# Altium schematic symbol library RobonAUT.SchLib: 48 symbols
Pins are listed as number, name and electrical type; pins without a type are passive.

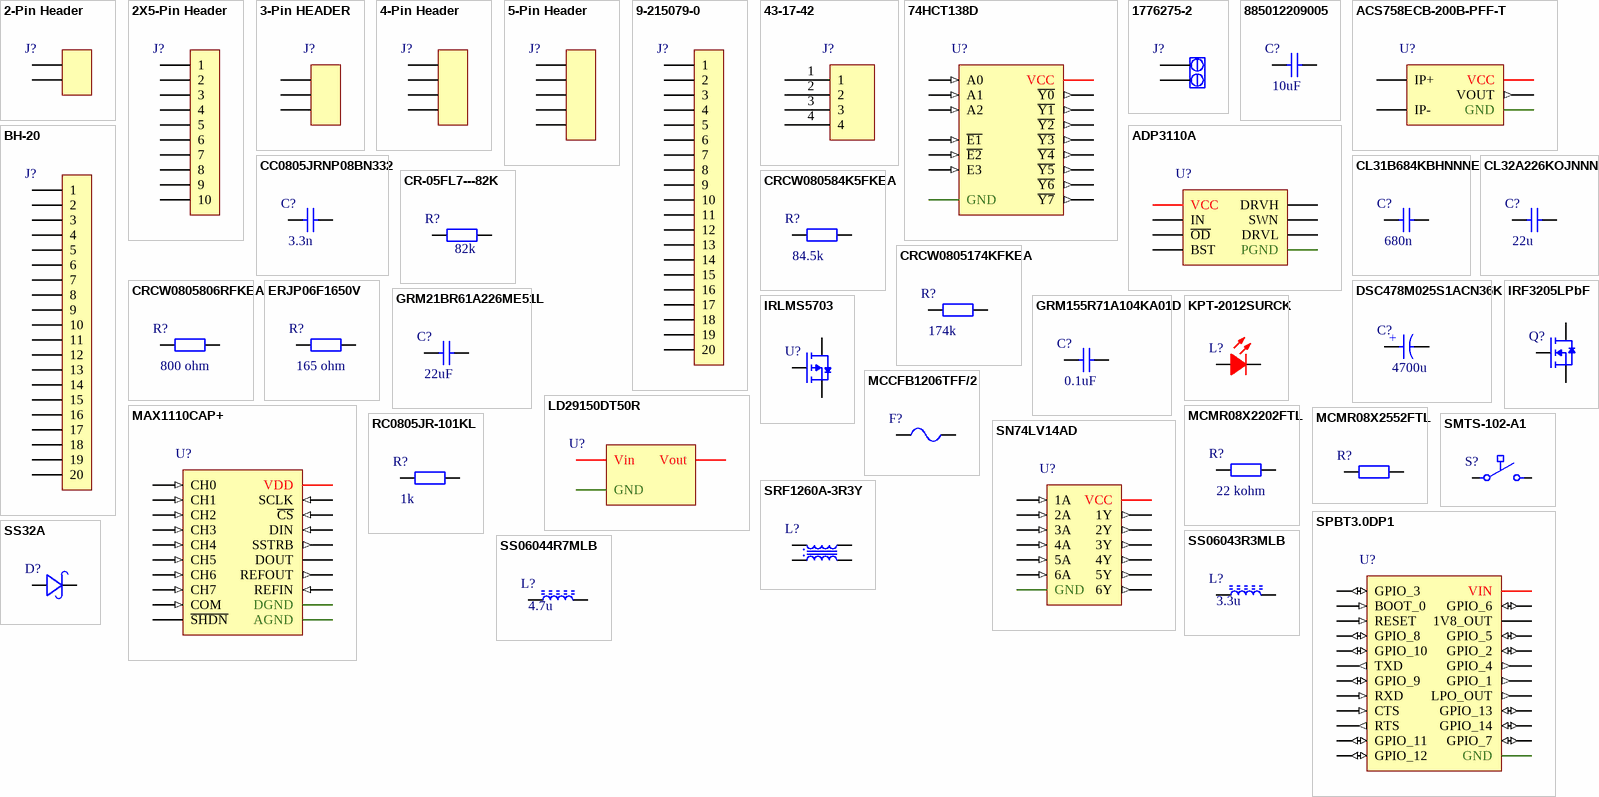
[diagram p0: symbols 2-Pin Header to SS06044R7MLB]

## 2-Pin Header
designator J?  (value not drawn)
TÜSKESOR 2 P SMD SPHSS220-B02-4/3 (T-T) 2mm PIN 0.5x0.5 TÖRDELHETÖ [ 43-10-37 ]
footprint 2-Pin Header
pins: 1, 2

## 2X5-Pin Header
designator J?  (value not drawn)
footprint 2X5-Pin Header
pins: 1, 2, 3, 4, 5, 6, 7, 8, 9, 10

## 3-Pin HEADER
designator J?  (value not drawn)
footprint 3-Pin HEADER
pins: 1, 2, 3

## 4-Pin Header
designator J?  (value not drawn)
footprint 4-Pin Header
pins: 1, 2, 3, 4

## 5-Pin Header
designator J?  (value not drawn)
footprint 5-Pin Header
pins: 1, 2, 3, 4, 5

## 9-215079-0
designator J?  (value not drawn)
Board-To-Board Connector, Top Entry, 1.27 mm, 20 Contacts, Receptacle, Micro-MaTch Series
footprint 9-215079-0
pins: 1, 2, 3, 4, 5, 6, 7, 8, 9, 10, 11, 12, 13, 14, 15, 16, 17, 18, 19, 20

## 43-17-42
designator J?  (value not drawn)
TÁPCSATL. 2.00mm 4P APA 90° NCW200S-04R (G-S) FORR. [ 43-17-42 ]
footprint 43-17-42
pins: 1, 2, 3, 4

## 74HCT138D
designator U?  (value not drawn)
Decoder / Demultiplexer, HCT Family, 1 Gate, 3 Input, 8 Output, 4 mA, 4.5 V to 5.5 V, SOIC-16
footprint 16-Pin SOIC
pins: 1 A0 (in), 2 A1 (in), 3 A2 (in), 4 ~{E1} (in), 5 ~{E2} (in), 6 E3 (in), 7 ~{Y7} (out), 8 GND (power), 9 ~{Y6} (out), 10 ~{Y5} (out), 11 ~{Y4} (out), 12 ~{Y3} (out), 13 ~{Y2} (out), 14 ~{Y1} (out), 15 ~{Y0} (out), 16 VCC (power)

## 1776275-2
designator J?  (value not drawn)
Wire-To-Board Terminal Block, 3.5 mm, 2 Ways, 26 AWG, 18 AWG, 0.9 mm², Screw
footprint Model Name (Footprint not found)
footprint 2-Pin W-t-B (1776275-2)
pins: 1, 2

## 885012209005
designator C?  Capacitance: 10uF  (hidden comment: *)
SMD Multilayer Ceramic Capacitor, 1210 [3225 Metric], 10 µF, 10 V, ± 10%, X7R, WCAP-CSGP Series
footprint 1210
pins: 1, 2

## ACS758ECB-200B-PFF-T
designator U?  (value not drawn)
Thermally Enhanced, Fully Integrated, Hall Effect-Based Linear Current Sensor IC with 100 μΩ Current Conductor
footprint ACS758XCB-PFF-T
pins: 1 VCC (power), 2 GND (power), 3 VOUT (out), 4 IP+, 5 IP-

## ADP3110A
designator U?  (value not drawn)
Dual Bootstrapped, 12 V / MOSFET Driver with Output / Disable
footprint DFN8
pins: 1 BST, 2 IN, 3 ~{OD}, 4 VCC (power), 5 DRVL, 6 PGND (power), 7 SWN, 8 DRVH

## BH-20
designator J?  (value not drawn)
SZAL.KABEL 20 P APA BH-20 (T-T) [ 43-01-71 ]
footprint 2x10-Pin Connector
pins: 1, 2, 3, 4, 5, 6, 7, 8, 9, 10, 11, 12, 13, 14, 15, 16, 17, 18, 19, 20

## CC0805JRNP08BN332
designator C?  Capacitance: 3.3n  (hidden comment: *)
3.3nF 0805 5% 25V NP0 CC0805JRNP08BN332 (YAG) [ 82-04-69 ]
footprint 0805
pins: 1, 2

## CL31B684KBHNNNE
designator C?  Capacitance: 680n  (hidden comment: *)
680nF 1206 10% 50V X7R CL31B684KBHNNNE (SAM) [ 82-09-39 ]
footprint 1206
pins: 1, 2

## CL32A226KOJNNNE
designator C?  Capacitance: 22u  (hidden comment: *)
22uF 1210 10% 16V X5R CL32A226KOJNNNE (SAM) [ 82-08-05 ]
footprint 1210
pins: 1, 2

## CR-05FL7---82K
designator R?  Resistance: 82k  (hidden comment: *)
82K0 0805 1% CR-05FL7---82K 0.125W (VIK) [ 80-11-09 ]
footprint 0805
pins: 1, 2

## CRCW080584K5FKEA
designator R?  Resistance: 84.5k  (hidden comment: *)
SMD Chip Resistor, 84.5 kohm, CRCW Series, 150 V, Thick Film, 0805 [2012 Metric], 125 mW
footprint 0805-W
pins: 1, 2

## CRCW0805174KFKEA
designator R?  Resistance: 174k  (hidden comment: *)
SMD Chip Resistor, 174 kohm, CRCW Series, 150 V, Thick Film, 0805 [2012 Metric], 125 mW
footprint 0805-W
pins: 1, 2

## CRCW0805806RFKEA
designator R?  Resistance: 800 ohm  (hidden comment: *)
RES, THICK FILM, 806R, 1%, 0.125W, 0805
footprint 0805-W
pins: 1, 2

## DSC478M025S1ACN36K
designator C?  Capacitance: 4700u  (hidden comment: *)
4700uF 25V 18x36 RM 7.5 20% 105° 3000h DSC478M025S1ACN36K (TEA) LOW ESR & IMP. HIGH FREQUENCY (KSC) [ 12-19-08 ]
footprint 18x36 EL_CAP
pins: 1, 2
text: +

## ERJP06F1650V
designator R?  Resistance: 165 ohm  (hidden comment: *)
SMD Chip Resistor, 165 ohm, ERJP06 Series, 400 V, Thick Film, 0805 [2012 Metric], 500 mW
footprint 0805-W
pins: 1, 2

## GRM21BR61A226ME51L
designator C?  Capacitance: 22uF  (hidden comment: *)
SMD Multilayer Ceramic Capacitor, 0805 [2012 Metric], 22 µF, 10 V, ± 20%, X5R, GRM Series
footprint 0805
pins: 1, 2

## GRM155R71A104KA01D
designator C?  Capacitance: 0.1uF  (hidden comment: *)
SMD Multilayer Ceramic Capacitor, 0402 [1005 Metric], 0.1 µF, 10 V, ± 10%, X7R, GRM Series
footprint 0402
pins: 1, 2

## IRF3205LPbF
designator Q?  (value not drawn)
HEXFET Power N channel MOSFET
footprint D2PAK
pins: D, G, S

## IRLMS5703
designator U?  (value not drawn)
IRLMS5703TR (IR) P-POWERFET 30V 2.3A Rds<0.2R MICRO-6 [ 86-03-34 ]
footprint Micro6
pins: D, G, S

## KPT-2012SURCK
designator L?  (value not drawn)
LED, Low Power, Red, SMD, 2 mA, 1.95 V, 630 nm
footprint 0808-LED
pins: A, K

## LD29150DT50R
designator U?  (value not drawn)
1.5 A, very low drop voltage regulators
footprint 3-Pin DPAK (TO-252)
pins: 1 Vin (power), 2 GND (power), 3 Vout (power)

## MAX1110CAP+
designator U?  (value not drawn)
Analogue to Digital Converter, Low Power, 8 bit, 50 kSPS, Single, 2.7 V, 5.5 V, SSOP
footprint 20-Pin SSOP
pins: 1 CH0 (in), 2 CH1 (in), 3 CH2 (in), 4 CH3 (in), 5 CH4 (in), 6 CH5 (in), 7 CH6 (in), 8 CH7 (in), 9 COM (in), 10 ~{SHDN} (hiz), 11 REFIN (in), 12 REFOUT (out), 13 AGND (power), 14 DGND (power), 15 DOUT (hiz), 16 SSTRB (out), 17 DIN (in), 18 ~{CS} (in), 19 SCLK (in), 20 VDD (power)

## MCCFB1206TFF/2
designator F?  (value not drawn)
Fuse, Surface Mount, 2 A, 32 V, Fast Acting, 1206
footprint 1206-Fuse
pins: 1, 2

## MCMR08X2202FTL
designator R?  Resistance: 22 kohm  (hidden comment: *)
SMD Chip Resistor, Ceramic, 22 kohm, MCMR Series, 150 V, Thick Film, 0805 [2012 Metric], 125 mW
footprint 0805-W
pins: 1, 2

## MCMR08X2552FTL
designator R?  (value not drawn)
SMD Chip Resistor, Ceramic, 25.5 kohm, MCMR Series, 150 V, Thick Film, 0805 [2012 Metric], 125 mW
footprint 0805-W
pins: 1, 2

## RC0805JR-101KL
designator R?  Resistance: 1k  (hidden comment: *)
1K00 0805 5% RC0805JR-101KL 0.125W (YAG) [ 81-34-72 ]
footprint 0805-W
pins: 1, 2

## SMTS-102-A1
designator S?  (value not drawn)
TOGGLE D= 5 3P SPDT SMTS-102-A1 (FEM) ON-ON 3A 125VAC 1AK.2ALL.SOLD. SUBMINI 315 [ 45-08-71 ]
footprint SMTS-102-A1
pins: 1, 2

## SN74LV14AD
designator U?  (value not drawn)
Inverter, 74LV14, 6 Input, 12 mA, 2 V to 5.5 V, SOIC-14
footprint 14-Pin SOIC
pins: 1 1A (in), 2 1Y (out), 3 2A (in), 4 2Y (out), 5 3A (in), 6 3Y (out), 7 GND (power), 8 4Y (out), 9 4A (in), 10 5Y (out), 11 5A (in), 12 6Y (out), 13 6A (in), 14 VCC (power)

## SPBT3.0DP1
designator U?  (value not drawn)
Bluetooth 3.0, Class 1 Module, ST Cortex M4, 2.1V to 3.6V Supply, 800Kbps, -88dBm Sensitivity
footprint SPBT3.0DP1
pins: 1 GPIO_3 (io), 2 BOOT_0 (in), 3 RESET (in), 4 GPIO_8 (io), 5 GPIO_10 (io), 6 TXD (out), 7 GPIO_9 (io), 8 RXD (in), 9 CTS (in), 10 RTS (out), 11 GPIO_11 (io), 12 GPIO_12 (io), 13 GPIO_7 (io), 14 GPIO_14 (io), 15 GPIO_13 (io), 16 LPO_OUT (out), 17 GPIO_1 (out), 18 GPIO_4 (out), 19 GPIO_2 (io), 20 GPIO_5 (io), 21 1V8_OUT (power), 22 GPIO_6 (io), 23 GND (power), 24 VIN (power)

## SRF1260A-3R3Y
designator L?  (value not drawn)
Inductor, Power, Dual, 3.3 µH, 0.0101 ohm, 9.26 A, 12.5mm x 12.5mm x 6mm
pins: 1, 2, 3, 4

## SS32A
designator D?  (value not drawn)
3A 40V DO-214AC SCH.RECT. SS34A (YET) SMA (SK34A;SX34) [ 83-02-56 ]
footprint DO-214AC(SMA)
pins: A, K

## SS06043R3MLB
designator L?  Inductance: 3.3u  (hidden comment: *)
3.3uHy 6.5x6.5mm 20% 0.05R SS06043R3MLB (ABC) Idc=2.3A POW. SHIELDED [ 93-03-23 ]
footprint ABC_IND
pins: 1, 2

## SS06044R7MLB
designator L?  Inductance: 4.7u  (hidden comment: *)
4.7uHy 6.5x6.5mm 20% 0.06R SS06044R7MLB (ABC) Idc=2A POW. SHIELDED [ 93-03-22 ]
footprint ABC_IND
pins: 1, 2

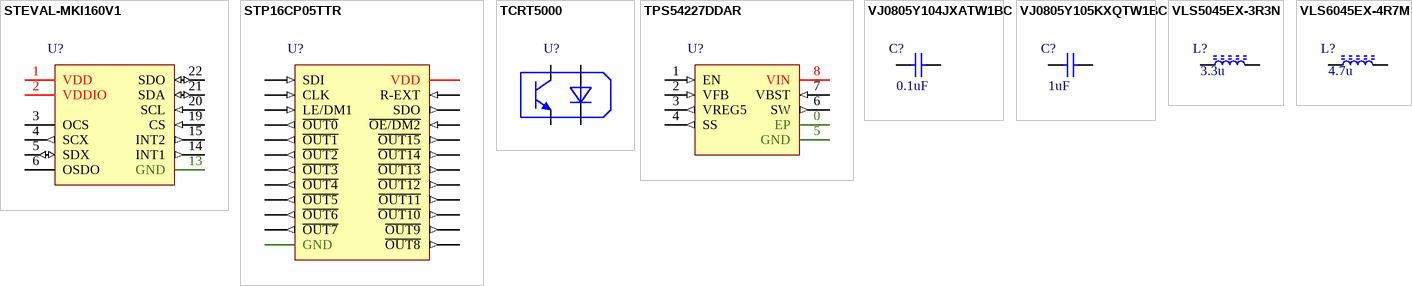
[diagram p1: symbols STEVAL-MKI160V1 to VLS6045EX-4R7M]

## STEVAL-MKI160V1
designator U?  (value not drawn)
LSM6DS3 adapter board for a standard DIL24 socket
footprint DIL24
pins: 1 VDD (power), 2 VDDIO (power), 3 OCS, 4 SCX (out), 5 SDX (io), 6 OSDO, 13 GND (power), 14 INT1 (out), 15 INT2 (out), 19 CS (in), 20 SCL (in), 21 SDA (io), 22 SDO (io)

## STP16CP05TTR
designator U?  (value not drawn)
Led Driver, 16 Outputs, Constant Current, 3V-5.5V in, 30MHz switch, 20V/100mA out, TSSOP-24
footprint 24-Pin TSSOP
pins: 1 GND (power), 2 SDI (in), 3 CLK (in), 4 LE/DM1 (in), 5 ~{OUT0} (out), 6 ~{OUT1} (out), 7 ~{OUT2} (out), 8 ~{OUT3} (out), 9 ~{OUT4} (out), 10 ~{OUT5} (out), 11 ~{OUT6} (out), 12 ~{OUT7} (out), 13 ~{OUT8} (out), 14 ~{OUT9} (out), 15 ~{OUT10} (out), 16 ~{OUT11} (out), 17 ~{OUT12} (out), 18 ~{OUT13} (out), 19 ~{OUT14} (out), 20 ~{OUT15} (out), 21 ~{OE/DM2} (in), 22 SDO (out), 23 R-EXT (in), 24 VDD (power)

## TCRT5000
designator U?  (value not drawn)
Reflective Photo Interrupter, Phototransistor, Through Hole, 15 mm, 60 mA, 5 Vr, 1.25 Vf
footprint TCRT5000
pins: A, C, E, K

## TPS54227DDAR
designator U?  (value not drawn)
DC-DC Switching (Step Down) Regulator, Adjustable, 700 kHz, 4.5-18Vin, up to 7V/2Aout, SO PowerPAD-8
footprint 8-Pin HSOP with ThermalPad
pins: 0 EP (power), 1 EN (in), 2 VFB (in), 3 VREG5 (out), 4 SS (out), 5 GND (power), 6 SW (out), 7 VBST (in), 8 VIN (power)

## VJ0805Y104JXATW1BC
designator C?  Capacitance: 0.1uF  (hidden comment: *)
SMD Multilayer Ceramic Capacitor, 0805 [2012 Metric], 0.1 µF, 50 V, ± 5%, X7R, VJ Series
footprint 0805
pins: 1, 2

## VJ0805Y105KXQTW1BC
designator C?  Capacitance: 1uF  (hidden comment: *)
SMD Multilayer Ceramic Capacitor, 0805 [2012 Metric], 1 µF, 10 V, ± 10%, X7R, VJ Series
footprint 0805
pins: 1, 2

## VLS5045EX-3R3N
designator L?  Inductance: 3.3u  (hidden comment: *)
Power Inductor (SMD), 3.3 µH, 4.2 A, Wirewound, 5.2 A, VLS-EX series, 5mm x 5mm x 4.5mm
footprint TDK_IND_5045
pins: 1, 2

## VLS6045EX-4R7M
designator L?  Inductance: 4.7u  (hidden comment: *)
Power Inductor (SMD), 4.7 µH, 4.2 A, Wirewound, 5.8 A, VLS-EX Series, 6mm x 6mm x 4.5mm
footprint TDK_IND_6045
pins: 1, 2